# Altium schematic symbol library Inductor_POL_Iron.Schlib: 1 symbol
Pins are listed as number, name and electrical type; pins without a type are passive.

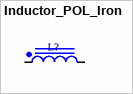
[diagram p0: symbol Inductor_POL_Iron]

## Inductor_POL_Iron
designator L?
pins: 1, 2